# Altium footprint library 2022-7-14-iic-2.42oled_2022-07-30.PcbLib: 9 footprints
Each footprint in its own frame and in the unit in brackets; x right, y up, seen from the top. Pads: shape width x height; smd on the part's side, far side on the other; paste and mask are expansions set on the pad; w line width, h text height; cw(c..) or ccw(c..) is an arc to the next point about the centre after c.
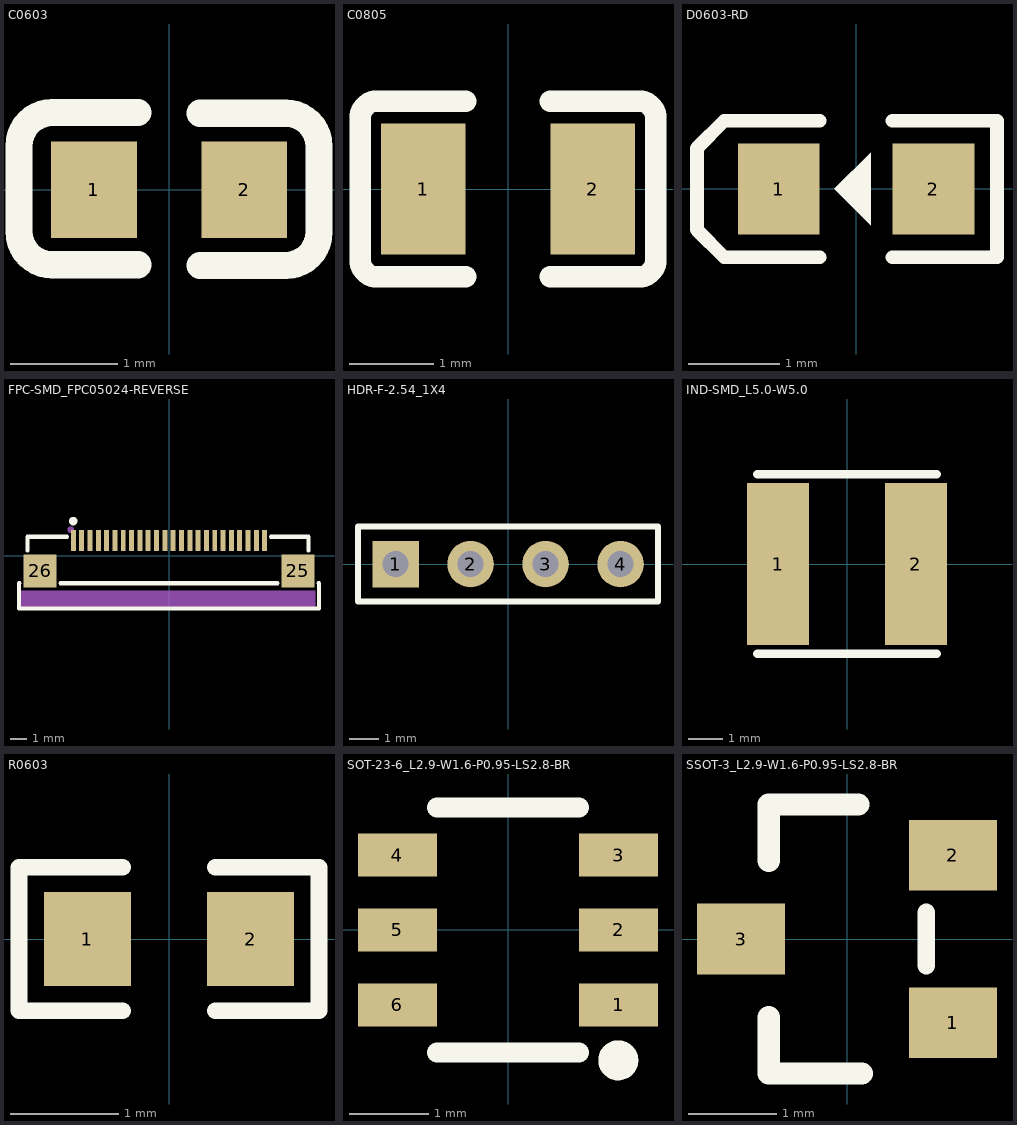
[diagram p0: the footprints below, top view; thin cyan lines are the x and y axes]

## C0603 [mm]
pads (2):
  rect 0.8x0.9 smd: 1(-0.7,0) 2(0.7,0)
Top Overlay:
  lines w0.254: -0.289,-0.698 -1.089,-0.698 cw(c-1.089,-0.388) -1.399,-0.388 -1.398,0.412 cw(c-1.089,0.412) -1.089,0.722 -0.289,0.722 ; 0.287,-0.704 1.087,-0.704 ccw(c1.087,-0.394) 1.397,-0.394 1.397,0.406 ccw(c1.087,0.406) 1.087,0.716 0.287,0.716

## C0805 [mm]
pads (2):
  rect 1x1.55 smd: 1(-1,0) 2(1,0)
Top Overlay:
  lines w0.254: -1.75,0.82 -1.75,0.8 ; -0.5,-1.04 -1.55,-1.04 cw(c-1.55,-0.84) -1.75,-0.84 -1.75,-0.8 -1.75,0.8 ; -0.5,1.04 -1.55,1.04 ccw(c-1.55,0.84) -1.75,0.84 -1.75,0.8 ; 0.5,-1.04 1.55,-1.04 ccw(c1.55,-0.84) 1.75,-0.84 1.75,-0.8 1.75,0.8 1.75,0.84 ccw(c1.55,0.84) 1.55,1.04 0.5,1.04

## D0603-RD [mm]
pads (2):
  rect 0.9x1 smd: 1(-0.85,0) 2(0.85,0)
Top Overlay:
  region: -0.24,0 0.16,0.4 0.16,0 0.16,-0.4
  lines w0.15: -0.4,-0.75 -1.45,-0.75 -1.75,-0.45 -1.75,-0.35 -1.75,0.35 -1.75,0.45 -1.45,0.75 -0.4,0.75 ; 0.4,-0.75 1.55,-0.75 ; 0.4,0.75 1.55,0.75 1.55,-0.73

## FPC-SMD_FPC05024-REVERSE [mm]
pads (26):
  rect 0.3x1.25 smd: 1(5.75,0.913) 2(5.25,0.913) 3(4.75,0.913) 4(4.25,0.913) 5(3.75,0.913) 6(3.25,0.913) 7(2.75,0.913) 8(2.25,0.913) 9(1.75,0.913) 10(1.25,0.913) 11(0.75,0.913) 12(0.25,0.913) 13(-0.25,0.913) 14(-0.75,0.913) 15(-1.25,0.913) 16(-1.75,0.913) 17(-2.25,0.913) 18(-2.75,0.913) 19(-3.25,0.913) 20(-3.75,0.913) 21(-4.25,0.913) 22(-4.75,0.913) 23(-5.25,0.913) 24(-5.75,0.913)
  rect 2x2 smd: 25(7.75,-0.913) 26(-7.75,-0.913)
Top Overlay:
  circle w0.254: c-5.76,2.081 r0.127
  lines w0.254: -8.981,-1.651 -9.017,-1.651 -9.017,-3.175 9.017,-3.175 9.017,-1.651 8.981,-1.651 ; -8.509,0.319 -8.509,1.143 -6.131,1.143 ; -6.519,-1.651 6.519,-1.651 ; 6.131,1.143 8.382,1.143 8.382,0.319
Mechanical 15:
  circle w0.2: c-5.907,1.572 r0.1
  region: -8.9,-3.2 -8.9,-2.1 8.8,-2.1 8.8,-3.2

## HDR-F-2.54_1X4 [mil]
pads (4):
  rect 62x62 hole 35: 1(-150,-0.01)
  round 62 hole 35: 2(-50,-0.01) 3(50,-0.01) 4(150,-0.01)
Top Overlay:
  lines w7.99: -125,50 200,50
  lines w8: -125,50 -200,50 -200,-50 200,-50 200,50

## IND-SMD_L5.0-W5.0 [mm]
pads (2):
  rect 1.8x4.7 smd: 1(-2,0) 2(2,0)
Top Overlay:
  lines w0.254: -2.6,-2.6 2.6,-2.6 ; -2.6,2.6 2.6,2.6

## R0603 [mm]
pads (2):
  rect 0.806x0.864 smd: 1(-0.753,0) 2(0.753,0)
Top Overlay:
  lines w0.152: -0.426,-0.661 -1.385,-0.661 -1.385,0.661 -0.426,0.661 ; 0.426,-0.661 1.385,-0.661 1.385,0.661 0.426,0.661
Top Paste:
  region: 1.195,0.45 0.395,0.45 0.345,0.4 0.345,0.172 0.715,0.172 0.715,-0.158 0.345,-0.158 0.345,-0.4 0.395,-0.45 1.195,-0.45 1.245,-0.4 1.245,0.4
  region: -0.355,0.4 -0.355,0.172 -0.735,0.172 -0.735,-0.158 -0.355,-0.158 -0.355,-0.4 -0.405,-0.45 -1.195,-0.45 -1.245,-0.4 -1.245,0.4 -1.195,0.45 -0.405,0.45

## SOT-23-6_L2.9-W1.6-P0.95-LS2.8-BR [mm]
pads (6):
  rect 1x0.55 smd: 1(1.4,-0.95) 2(1.4,0) 3(1.4,0.95) 4(-1.4,0.95) 5(-1.4,0) 6(-1.4,-0.95)
Top Overlay:
  circle w0.254: c1.397,-1.651 r0.127
  lines w0.254: -0.9,-1.55 0.9,-1.55 ; -0.9,1.55 0.9,1.55
Mechanical 15:
  circle w0.2: c1.4,-0.95 r0.1

## SSOT-3_L2.9-W1.6-P0.95-LS2.8-BR [mm]
pads (3):
  rect 1x0.8 smd: 1(1.2,-0.95) 2(1.2,0.95) 3(-1.2,0)
Top Overlay:
  lines w0.2: 0.9,-0.3 0.9,0.3
  lines w0.254: -0.889,-0.889 -0.889,-1.524 0.165,-1.524 ; -0.889,0.889 -0.889,1.524 0.127,1.524
Mechanical 15:
  circle w0.254: c1.397,-0.889 r0.127